# EAGLE library part H8/3069F (library IC)
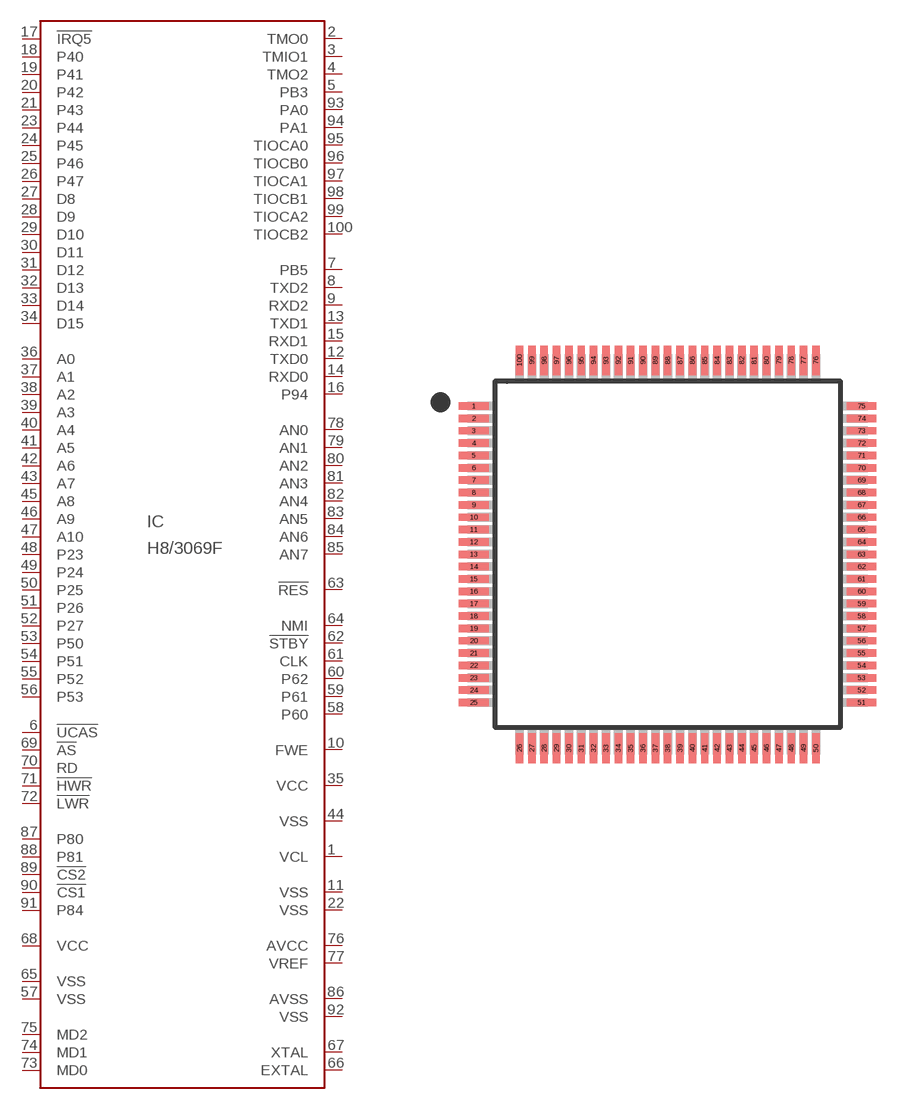
[diagram p0: symbol with the pads of QFP100-0.5; footprint QFP100-0.5]

Designator prefix IC

## H8/3069FH8/3069F  [QFP100-0.5]
1  VCL  out
2  TMO0  out
3  TMIO1  out
4  TMO2  out
5  PB3
6  !UCAS  out
7  PB5
8  TXD2  out
9  RXD2  in
10  FWE  in
11  VSS  pwr
12  TXD0  out
13  TXD1  out
14  RXD0  in
15  RXD1  in
16  P94
17  !IRQ5
18  P40
19  P41
20  P42
21  P43
22  VSS  pwr
23  P44
24  P45
25  P46
26  P47
27  D8
28  D9
29  D10
30  D11
31  D12
32  D13
33  D14
34  D15
35  VCC  pwr
36  A0
37  A1
38  A2
39  A3
40  A4
41  A5
42  A6
43  A7
44  VSS  pwr
45  A8
46  A9
47  A10
48  P23  in
49  P24  in
50  P25  in
51  P26  in
52  P27  in
53  P50  in
54  P51  in
55  P52  in
56  P53  in
57  VSS
58  P60
59  P61
60  P62
61  CLK  out
62  !STBY  in
63  !RES  in
64  NMI  in
65  VSS
66  EXTAL  in
67  XTAL  out
68  VCC  pwr
69  !AS  out
70  RD  out
71  !HWR  out
72  !LWR  out
73  MD0  in
74  MD1  in
75  MD2  in
76  AVCC  pwr
77  VREF  in
78  AN0  in
79  AN1  in
80  AN2  in
81  AN3  in
82  AN4  in
83  AN5  in
84  AN6  in
85  AN7  in
86  AVSS  pwr
87  P80
88  P81  in
89  !CS2  out
90  !CS1  in
91  P84  in
92  VSS
93  PA0
94  PA1
95  TIOCA0  out
96  TIOCB0  out
97  TIOCA1  out
98  TIOCB1  out
99  TIOCA2  out
100  TIOCB2  out

## Footprint QFP100-0.5 (pad centres in mm)
smd 1.2 x 0.3: 1 -7.85,6; 2 -7.85,5.5; 3 -7.85,5; 4 -7.85,4.5; 5 -7.85,4; 6 -7.85,3.5; 7 -7.85,3; 8 -7.85,2.5; 9 -7.85,2; 10 -7.85,1.5; 11 -7.85,1; 12 -7.85,0.5; 13 -7.85,0; 14 -7.85,-0.5; 15 -7.85,-1; 16 -7.85,-1.5; 17 -7.85,-2; 18 -7.85,-2.5; 19 -7.85,-3; 20 -7.85,-3.5; 21 -7.85,-4; 22 -7.85,-4.5; 23 -7.85,-5; 24 -7.85,-5.5; 25 -7.85,-6; 51 7.85,-6; 52 7.85,-5.5; 53 7.85,-5; 54 7.85,-4.5; 55 7.85,-4; 56 7.85,-3.5; 57 7.85,-3; 58 7.85,-2.5; 59 7.85,-2; 60 7.85,-1.5; 61 7.85,-1; 62 7.85,-0.5; 63 7.85,0; 64 7.85,0.5; 65 7.85,1; 66 7.85,1.5; 67 7.85,2; 68 7.85,2.5; 69 7.85,3; 70 7.85,3.5; 71 7.85,4; 72 7.85,4.5; 73 7.85,5; 74 7.85,5.5; 75 7.85,6
smd 0.3 x 1.2: 26 -6,-7.85; 27 -5.5,-7.85; 28 -5,-7.85; 29 -4.5,-7.85; 30 -4,-7.85; 31 -3.5,-7.85; 32 -3,-7.85; 33 -2.5,-7.85; 34 -2,-7.85; 35 -1.5,-7.85; 36 -1,-7.85; 37 -0.5,-7.85; 38 0,-7.85; 39 0.5,-7.85; 40 1,-7.85; 41 1.5,-7.85; 42 2,-7.85; 43 2.5,-7.85; 44 3,-7.85; 45 3.5,-7.85; 46 4,-7.85; 47 4.5,-7.85; 48 5,-7.85; 49 5.5,-7.85; 50 6,-7.85; 76 6,7.85; 77 5.5,7.85; 78 5,7.85; 79 4.5,7.85; 80 4,7.85; 81 3.5,7.85; 82 3,7.85; 83 2.5,7.85; 84 2,7.85; 85 1.5,7.85; 86 1,7.85; 87 0.5,7.85; 88 0,7.85; 89 -0.5,7.85; 90 -1,7.85; 91 -1.5,7.85; 92 -2,7.85; 93 -2.5,7.85; 94 -3,7.85; 95 -3.5,7.85; 96 -4,7.85; 97 -4.5,7.85; 98 -5,7.85; 99 -5.5,7.85; 100 -6,7.85